# Altium schematic symbol library Drive_GD32F.SchLib: 33 symbols
Pins are listed as number, name and electrical type; pins without a type are passive.

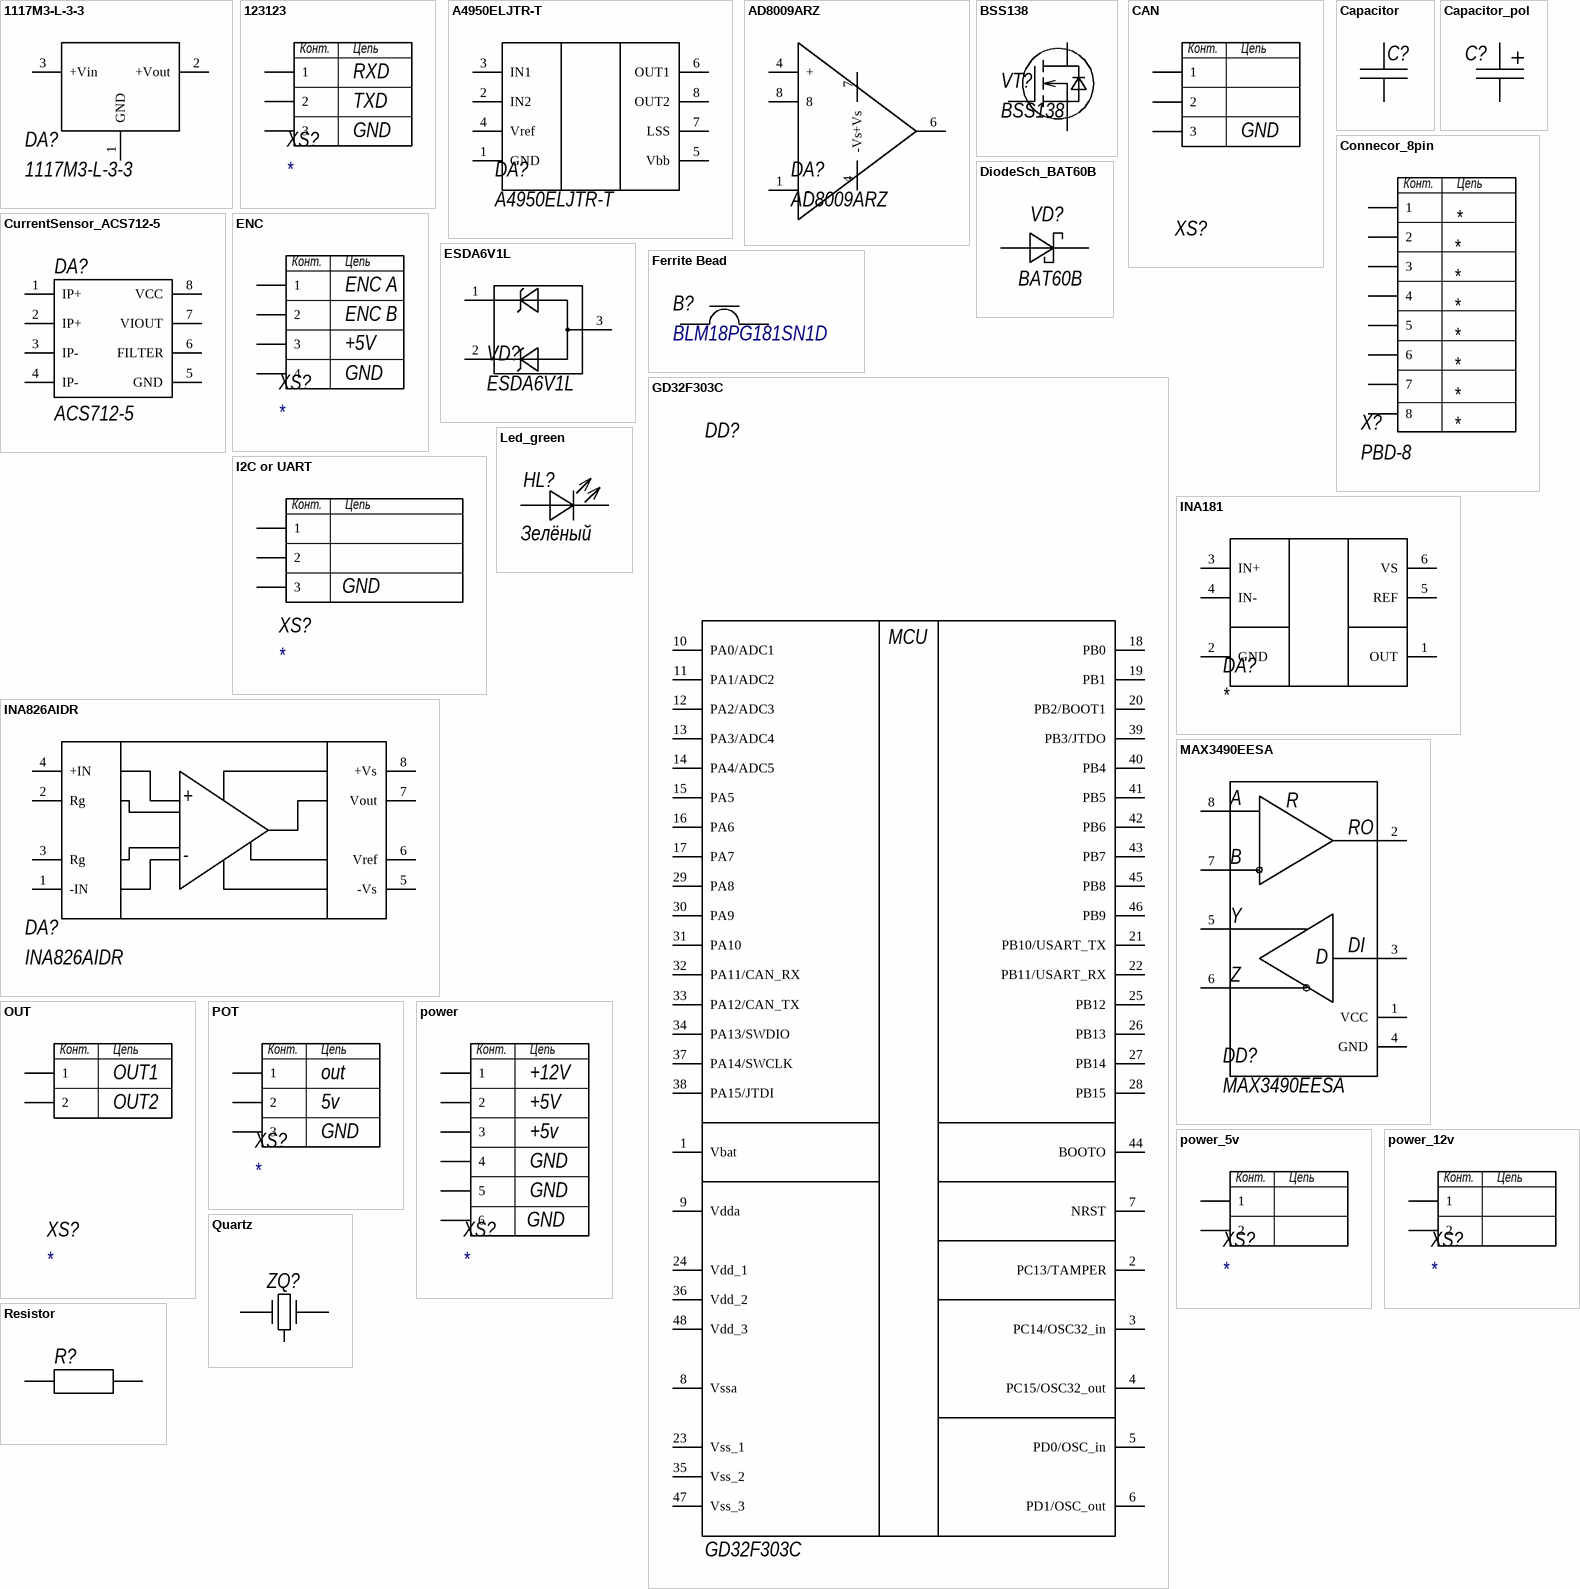
[diagram p0: symbols 1117M3-L-3-3 to Resistor]

## 1117M3-L-3-3
designator DA?
footprint SOT-223 (3)
pins: 1 GND, 2 +Vout, 3 +Vin

## 123123
designator XS?
footprint PH3_2mm
pins: 1, 2, 3
1 alternate drawing of the same symbol
text: Конт.; Цепь; RXD; TXD; GND

## A4950ELJTR-T
designator DA?
ValueManufacturer: Allegro Microsystems; ValueType: ШИМ драйвер двигателей; ValueDescriptioneter 1: Full-Bridge; NomenclatureNumber: 9001130282; ComponentLink1Description: chipdip; ComponentLink1URL: https://www.chipdip.ru/product/a4950eljtr-t
footprint SOIC-8-ER
pins: 1 GND, 2 IN2, 3 IN1, 4 Vref, 5 Vbb, 6 OUT1, 7 LSS, 8 OUT2

## AD8009ARZ
designator DA?
ComponentLink1Description: chipdip; ComponentLink1URL: https://www.chipdip.ru/product0/8026300979
footprint SO-8?
pins: 1 -, 4 +, 4 -Vs, 6, 7 +Vs, 8

## BSS138
designator VT?
footprint SOT-23
pins: 1 G, 2 S, 3 D

## CAN
designator XS?  (value not drawn)
Value: CAN
footprint PH3_2mm
pins: 1, 2, 3
1 alternate drawing of the same symbol
text: Конт.; Цепь; GND

## Capacitor
designator C?
ValueType: Конденсатор; ESR: *; Voltage: *; Dielectric: *; Package: =; Parameter 1: *
footprint 0603_CAP
footprint 0805_cap
footprint 0402_CAP
pins: 1, 2

## Capacitor_pol
designator C?
ValueType: Конденсатор
footprint CAP_POl case G
footprint cap pol D8
footprint CASE A
footprint CASE D
pins: 1, 2

## Connecor_8pin
designator X?, comment PBD-8
System: Connector; Parameter 8: *; Parameter 7: *; Parameter 6: *; Parameter 5: *; Parameter 4: *; Parameter 3: *; Parameter 2: *; Parameter 1: *
footprint PBD_8_2mm
pins: 1, 2, 3, 4, 5, 6, 7, 8
text: Конт.; Цепь

## CurrentSensor_ACS712-5
designator DA?, comment ACS712-5
footprint SOIC-8
pins: 1 IP+, 2 IP+, 3 IP-, 4 IP-, 5 GND, 6 FILTER, 7 VIOUT, 8 VCC

## DiodeSch_BAT60B
designator VD?, comment BAT60B
ValueManufacturer: NXP Semiconductors; ValueManufacturerPartNumber: BAT254
footprint SOD-323
pins: A, K

## ENC
designator XS?
footprint step_2.5_4pin
pins: 1, 2, 3, 4
1 alternate drawing of the same symbol
text: Конт.; Цепь; ENC A; ENC B; +5V; GND

## ESDA6V1L
designator VD?
ValueManufacturer: STMicroelectronics; ValueType: TVS; ComponentLink1Description: chipdip; ComponentLink1URL: https://www.chipdip.ru/product/esda6v1l
footprint SOT-23
pins: 1, 2, 3

## Ferrite Bead
designator B?, comment BLM18PG181SN1D
footprint Ferrite_Bead_0603
pins: 1, 2

## GD32F303C
designator DD?
ValueManufacturer: Giga Device; ValueDescription: Микроконтроллер; Case: LQFP-48; ValueManufacturerPartNumber: GD32F303C; ValueType: Микроконтроллер
footprint LQFP-48
pins: 1 Vbat, 2 PC13/TAMPER, 3 PC14/OSC32_in, 4 PC15/OSC32_out, 5 PD0/OSC_in, 6 PD1/OSC_out, 7 NRST, 8 Vssa, 9 Vdda, 10 PA0/ADC1, 11 PA1/ADC2, 12 PA2/ADC3, 13 PA3/ADC4, 14 PA4/ADC5, 15 PA5, 16 PA6, 17 PA7, 18 PB0, 19 PB1, 20 PB2/BOOT1, 21 PB10/USART_TX, 22 PB11/USART_RX, 23 Vss_1, 24 Vdd_1, 25 PB12, 26 PB13, 27 PB14, 28 PB15, 29 PA8, 30 PA9, 31 PA10, 32 PA11/CAN_RX, 33 PA12/CAN_TX, 34 PA13/SWDIO, 35 Vss_2, 36 Vdd_2, 37 PA14/SWCLK, 38 PA15/JTDI, 39 PB3/JTDO, 40 PB4, 41 PB5, 42 PB6, 43 PB7, 44 BOOTO, 45 PB8, 46 PB9, 47 Vss_3, 48 Vdd_3
text: MCU

## I2C or UART
designator XS?
footprint PH3_2mm
pins: 1, 2, 3
1 alternate drawing of the same symbol
text: Конт.; Цепь; GND

## INA181
designator DA?
footprint SOT-23-6
pins: 1 OUT, 2 GND, 3 IN+, 4 IN-, 5 REF, 6 VS

## INA826AIDR
designator DA?
ComponentLink1Description: chipdip; ComponentLink1URL: https://www.chipdip.ru/product0/8026300979
footprint SO-8?
pins: 1 -IN, 2 Rg, 3 Rg, 4 +IN, 5 -Vs, 6 Vref, 7 Vout, 8 +Vs
text: +; -

## Led_green
designator HL?, comment Зелёный
ValueManufacturer: Foryard; ValueManufacturerPartNumber: fyls-0603ugc; Temp: -40°C...+85°C; ValueDescription: Светодиод; Case: 0603; Value: Зелёный; ValueType: Светодиод
footprint 0603_LED_GREEN
footprint 0402_LED_GREEN
pins: A, K

## MAX3490EESA
designator DD?
ValueManufacturer: Analog Devices; NomenclatureNumber: 8002979238; ComponentLink1Description: chipdip; ComponentLink1URL: https://www.chipdip.ru/product0/8002979238?ysclid=m3rd7su6kb974072814
footprint SOIC-8
pins: 1 VCC, 2 13, 3 14, 4 GND, 5 15, 6 16, 7 12, 8 11
text: А; R; RO; B; Y; DI; D; Z

## OUT
designator XS?
footprint step_2.54_2
pins: 1, 2
1 alternate drawing of the same symbol
text: Конт.; Цепь; OUT1; OUT2

## POT
designator XS?
footprint step_2.5_3pin
pins: 1, 2, 3
1 alternate drawing of the same symbol
text: Конт.; Цепь; out; 5v; GND

## power
designator XS?
footprint STEP_2.54mm 2X3
pins: 1, 2, 3, 4, 5, 6
1 alternate drawing of the same symbol
text: Конт.; Цепь; +12V; +5V; +5v; GND

## power_5v
designator XS?
footprint STEP_2.54mm 2X1
pins: 1, 2
1 alternate drawing of the same symbol
text: Конт.; Цепь

## power_12v
designator XS?
footprint STEP_2.54mm 2X1
pins: 1, 2
1 alternate drawing of the same symbol
text: Конт.; Цепь

## Quartz
designator ZQ?
ValueType: Кварцевый резонатор
footprint HC-49S
footprint KX-7T
pins: 1, 2, 3

## Resistor
designator R?
ValueType: Резистор; Tolerance: *; URL: *; Temp: *; Power: *; Case: *; ValueManufacturer: *; ValueManufacturerPartNumber: *; ValueDescription: *
footprint 0603_RES
footprint 0402_res
footprint 2512_res
pins: 1, 2

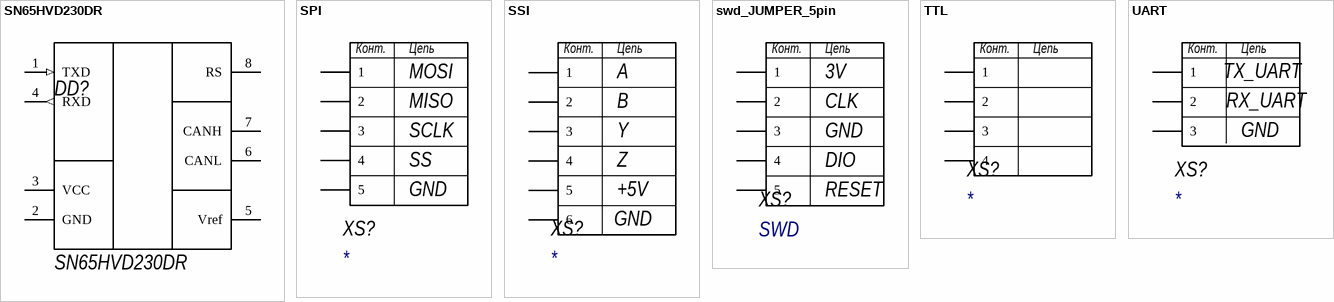
[diagram p1: symbols SN65HVD230DR to UART]

## SN65HVD230DR
designator DD?
footprint SOIC-8
pins: 1 TXD (in), 2 GND, 3 VCC, 4 RXD (out), 5 Vref, 6 CANL, 7 CANH, 8 RS

## SPI
designator XS?
footprint PH5_2mm
pins: 1, 2, 3, 4, 5
1 alternate drawing of the same symbol
text: Конт.; Цепь; MOSI; MISO; SCLK; SS; GND

## SSI
designator XS?
footprint PH6_2mm
pins: 1, 2, 3, 4, 5, 6
1 alternate drawing of the same symbol
text: Конт.; Цепь; A; B; Y; Z; +5V; GND

## swd_JUMPER_5pin
designator XS?, comment SWD
footprint jumper_5pin_step2mm
pins: 1, 2, 3, 4, 5
1 alternate drawing of the same symbol
text: Конт.; Цепь; 3V; CLK; GND; DIO; RESET

## TTL
designator XS?
footprint PH4_2mm
pins: 1, 2, 3, 4
1 alternate drawing of the same symbol
text: Конт.; Цепь

## UART
designator XS?
footprint PH3_2mm
pins: 1, 2, 3
1 alternate drawing of the same symbol
text: Конт.; Цепь; TX_UART; RX_UART; GND